# EAGLE library part 39-30-?10? (library con-molex-mini-fit)
HEADER
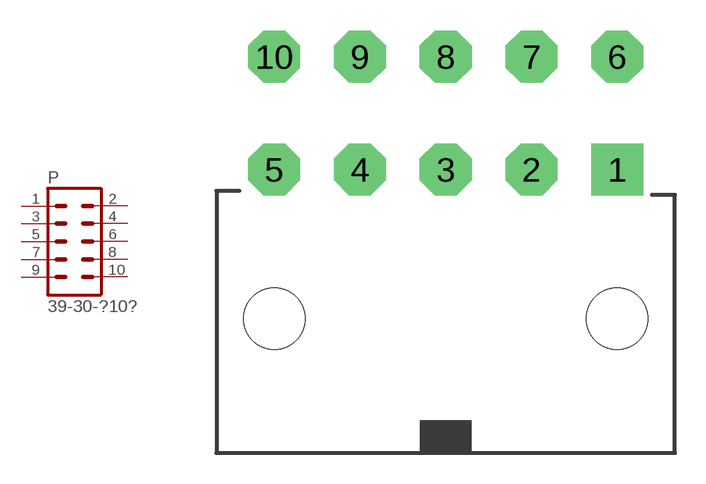
[diagram p2: symbol with the pads of 39-30-?10?; footprint 39-30-?10?]

Designator prefix P

## 39-30-10  [39-30-?10?]
1  1  pas
2  2  pas
3  3  pas
4  4  pas
5  5  pas
6  6  pas
7  7  pas
8  8  pas
9  9  pas
10  10  pas

## Footprint 39-30-?10? (pad centres in mm)
HEADER
drill 1.422 pad 2.54 square: 1 8.382,0
drill 1.422 pad 2.54 octagon: 2 4.191,0; 3 0,0; 4 -4.191,0; 5 -8.382,0; 6 8.382,5.512; 7 4.191,5.512; 8 0,5.512; 9 -4.191,5.512; 10 -8.382,5.512
hole 3 at -8.382,-7.3
hole 3 at 8.382,-7.3